# EAGLE library part 2X3SHROUDED (library lcd-buzzer)
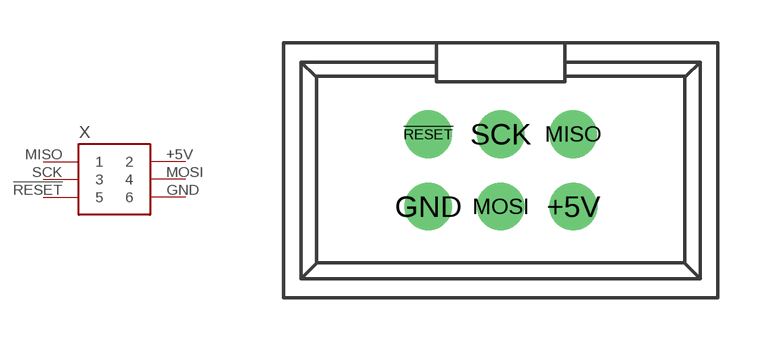
[diagram p3: symbol with the pads of 2X3SHROUDED; footprint 2X3SHROUDED]

Designator prefix X

## 2X3SHROUDED  [2X3SHROUDED]
!RESET  5
+5V  2
GND  6
MISO  1
MOSI  4
SCK  3

## Footprint 2X3SHROUDED (pad centres in mm)
drill 1.02 pad 1.676: !RESET -2.54,1.27; +5V 2.554,-1.27; GND -2.54,-1.27; MISO 2.54,1.27; MOSI 0,-1.27; SCK 0,1.27